# EAGLE library part 6871XX14522_68712214522 (library Wurth_Connectors_WR-FPC)
WR-FPC 0.50 mm SMT ZIF Horizontal Bottom Contact KIND PROPERTIES Pitch 0.5 mm MATERIAL PROPERTIES Insulator Material LCP Contact Material Phosphor Bronze Contact Plating 100 (µ") Tin over 50 (µ") Nickel Contact Type Stamped Solder Tabs Brass <https://www.we-online.com/catalog/media/o32870v209%20Family_WR-FPC_6871xx14522.jpg> Details see: https://www.we-online.com/catalog/en/FPC_0_5_SMT_ZIF_HORIZONTAL_BOTTOM_CONTACT_6871XX14522/ Updated by Ella Wu 2020-08-26 2020(C) Wurth Elektronik
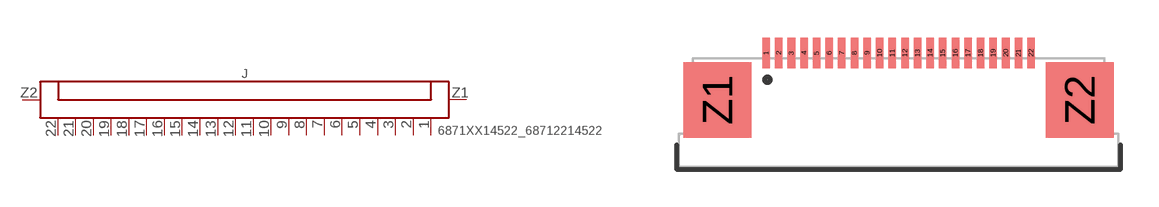
[diagram p178: symbol with the pads of 68712214522; footprint 68712214522]

Designator prefix J

## 6871XX14522_68712214522 (CONTACT-RESISTANCE: 20mOhm; DATASHEET-URL: https://www.we-online.com/catalog/datasheet/68712214522.pdf; IR: 0.5A; L: 17.4mm; PACKAGING: Tape and Reel; PART-NUMBER: 68712214522; PINS: 22; PITCH: 0.5mm; TYPE: Horizontal; VALUE: 68712214522; WORKING-VOLTAGE: 50V(AC))  [68712214522]
1  1  pas
2  2  pas
3  3  pas
4  4  pas
5  5  pas
6  6  pas
7  7  pas
8  8  pas
9  9  pas
10  10  pas
11  11  pas
12  12  pas
13  13  pas
14  14  pas
15  15  pas
16  16  pas
17  17  pas
18  18  pas
19  19  pas
20  20  pas
21  21  pas
22  22  pas
Z1  Z1  pas
Z2  Z2  pas

## Footprint 68712214522 (pad centres in mm)
WR-FPC 0.50 mm SMT ZIF Horizontal Bottom Contact , 22 Pins
smd 0.3 x 1.2: 1 -5.25,2.35; 2 -4.75,2.35; 3 -4.25,2.35; 4 -3.75,2.35; 5 -3.25,2.35; 6 -2.75,2.35; 7 -2.25,2.35; 8 -1.75,2.35; 9 -1.25,2.35; 10 -0.75,2.35; 11 -0.25,2.35; 12 0.25,2.35; 13 0.75,2.35; 14 1.25,2.35; 15 1.75,2.35; 16 2.25,2.35; 17 2.75,2.35; 18 3.25,2.35; 19 3.75,2.35; 20 4.25,2.35; 21 4.75,2.35; 22 5.25,2.35
smd 2.7 x 3: Z1 -7.18,0.49; Z2 7.18,0.49